# Altium integrated library Oscillators - Crystals.IntLib: 746 symbols (part 14 of 17)
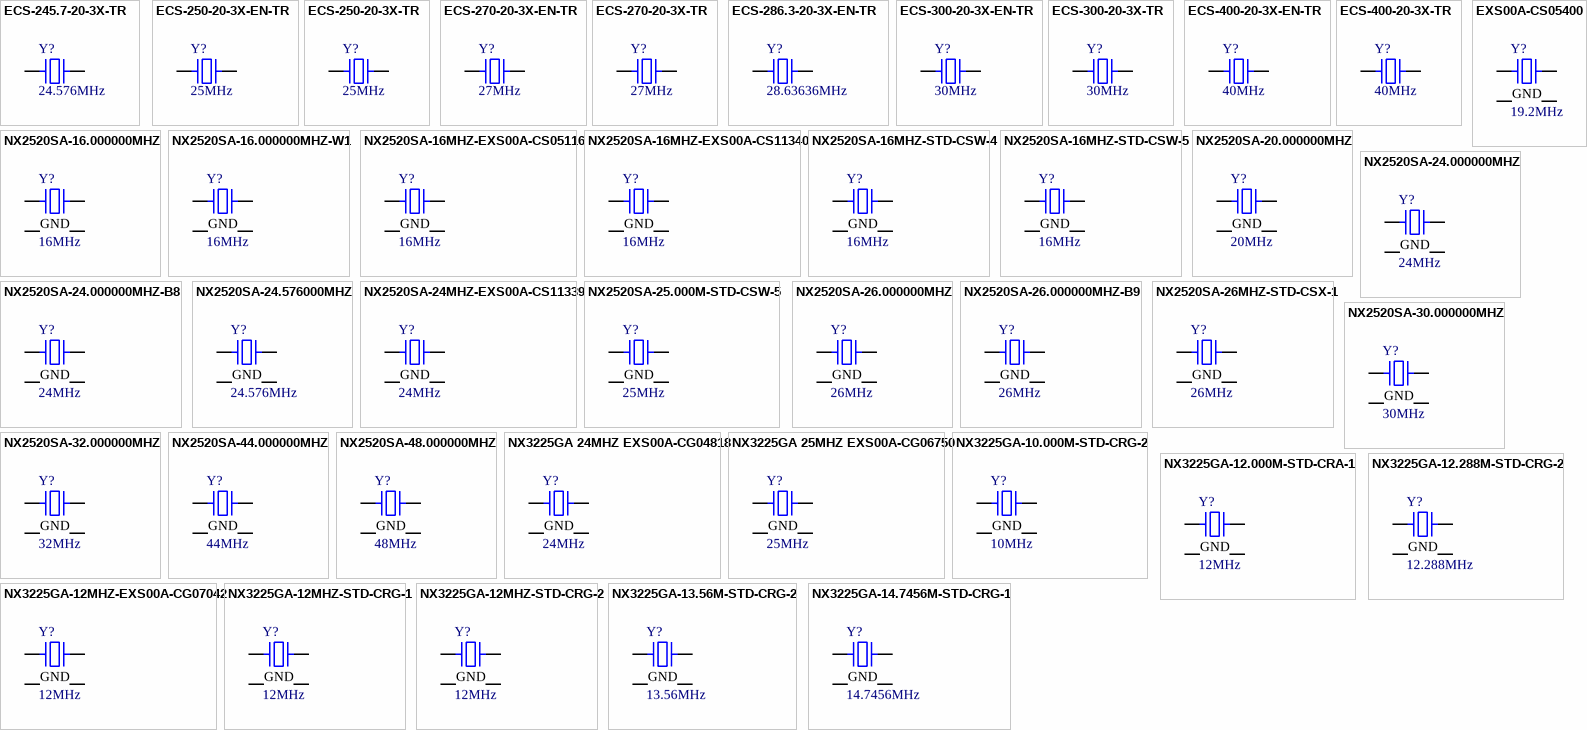
[diagram p31: symbols ECS-245.7-20-3X-TR to NX3225GA-14.7456M-STD-CRG-1]

## NX3225GA 24MHZ EXS00A-CG04818
designator Y?, comment 24MHz
CRYSTAL 24MHZ 8PF SMD; Part Number: NX3225GA 24MHZ EXS00A-CG04818; Manufacturer: NDK America, Inc.; ESR (Equivalent Series Resistance): 50 Ohms; Operating Mode: Fundamental; ComponentLink2Description: DigiKey Link; ComponentLink2URL: http://digikey.com/product-detail/en/ndk-america-inc/NX3225GA-24MHZ-EXS00A-CG04818/644-1389-1-ND/9172117; Frequency: 24MHz; Height - Seated (Max): 0.035" (0.90mm); LastUpdated: 9/2/2020 1:21:58 AM; Lifecycle Status: Active; Load Capacitance: 8pF; Minimum Order: 1; Mounting Type: Surface Mount; Operating Temperature: -40°C ~ 85°C; Package / Case: 4-SMD, No Lead; Packaging: TapeAndReel; PartId: 535; Part Status: Active; Price: 0.29; Series: NX3225GA; Size / Dimension: 0.126" L x 0.098" W (3.20mm x 2.50mm); Supplier 1: DigiKey; Supplier Part Number 1: 644-1389-1-ND; Type: MHz Crystal; Value: 24MHz
footprint NDK NX3225GA
pins: 1, 2 GND, 3, 4 GND

## NX3225GA 25MHZ EXS00A-CG06750
designator Y?, comment 25MHz
CRYSTAL 25MHZ 8PF SMD; Part Number: NX3225GA 25MHZ EXS00A-CG06750; Manufacturer: NDK America, Inc.; ComponentLink2Description: DigiKey Link; ComponentLink2URL: http://digikey.com/product-detail/en/ndk-america-inc/NX3225GA-25MHZ-EXS00A-CG06750/644-1390-1-ND/9172118; Frequency: 25MHz; Height - Seated (Max): 0.035" (0.90mm); LastUpdated: 9/2/2020 1:21:58 AM; Lifecycle Status: Active; Load Capacitance: 8pF; Minimum Order: 1; Mounting Type: Surface Mount; Package / Case: 4-SMD, No Lead; Packaging: TapeAndReel; PartId: 543; Part Status: Active; Price: 0.55; Series: NX3225GA; Size / Dimension: 0.126" L x 0.098" W (3.20mm x 2.50mm); Supplier 1: DigiKey; Supplier Part Number 1: 644-1390-1-ND; Type: MHz Crystal; Value: 25MHz
footprint NDK NX3225GA
pins: 1, 2 GND, 3, 4 GND

## NX3225GA-10.000M-STD-CRG-2
designator Y?, comment 10MHz
CRYSTAL 10.0000MHZ 8PF SMD; Part Number: NX3225GA-10.000M-STD-CRG-2; Manufacturer: NDK America, Inc.; ESR (Equivalent Series Resistance): 200 Ohms; Frequency Stability: ±30ppm; Frequency Tolerance: ±20ppm; Operating Mode: Fundamental; ComponentLink1Description: Datasheet; ComponentLink1URL: http://www.ndk.com/images/products/catalog/c_NX3225GA-STD-CRG-2_e.pdf; ComponentLink2Description: DigiKey Link; ComponentLink2URL: http://digikey.com/product-detail/en/ndk-america-inc/NX3225GA-10.000M-STD-CRG-2/644-1255-1-ND/5022987; Frequency: 10MHz; Height - Seated (Max): 0.035" (0.90mm); LastUpdated: 9/2/2020 1:21:58 AM; Lifecycle Status: Active; Load Capacitance: 8pF; Minimum Order: 1; Mounting Type: Surface Mount; Operating Temperature: -40°C ~ 85°C; Package / Case: 4-SMD, No Lead; Packaging: TapeAndReel; PartId: 555; Part Status: Active; Price: 0.29; Series: NX3225GA; Size / Dimension: 0.126" L x 0.098" W (3.20mm x 2.50mm); Supplier 1: DigiKey; Supplier Part Number 1: 644-1255-1-ND; Type: MHz Crystal; Value: 10MHz
footprint NDK NX3225GA
pins: 1, 2 GND, 3, 4 GND

## NX3225GA-12.000M-STD-CRA-1
designator Y?, comment 12MHz
CRYSTAL 12.0000MHZ 8PF SMD; Part Number: NX3225GA-12.000M-STD-CRA-1; Manufacturer: NDK America, Inc.; ESR (Equivalent Series Resistance): 300 Ohms; Frequency Stability: ±150ppm; Frequency Tolerance: ±50ppm; Operating Mode: Fundamental; ComponentLink1Description: Datasheet; ComponentLink1URL: http://www.ndk.com/images/products/catalog/c_NX3225GA-STD-CRA-1_e.pdf; ComponentLink2Description: DigiKey Link; ComponentLink2URL: http://digikey.com/product-detail/en/ndk-america-inc/NX3225GA-12.000M-STD-CRA-1/644-1283-1-ND/5137843; Frequency: 12MHz; Height - Seated (Max): 0.035" (0.90mm); LastUpdated: 9/2/2020 1:21:58 AM; Lifecycle Status: Active; Load Capacitance: 8pF; Minimum Order: 1; Mounting Type: Surface Mount; Operating Temperature: -40°C ~ 150°C; Package / Case: 4-SMD, No Lead; Packaging: TapeAndReel; PartId: 542; Part Status: Active; Price: 0.38; Ratings: AEC-Q200; Series: NX3225GA; Size / Dimension: 0.126" L x 0.098" W (3.20mm x 2.50mm); Supplier 1: DigiKey; Supplier Part Number 1: 644-1283-1-ND; Type: MHz Crystal; Value: 12MHz
footprint NDK NX3225GA
pins: 1, 2 GND, 3, 4 GND

## NX3225GA-12.288M-STD-CRG-2
designator Y?, comment 12.288MHz
CRYSTAL 12.2880MHZ 8PF SMD; Part Number: NX3225GA-12.288M-STD-CRG-2; Manufacturer: NDK America, Inc.; ESR (Equivalent Series Resistance): 100 Ohms; Frequency Stability: ±30ppm; Frequency Tolerance: ±20ppm; Operating Mode: Fundamental; ComponentLink1Description: Datasheet; ComponentLink1URL: http://www.ndk.com/images/products/catalog/c_NX3225GA-STD-CRG-2_e.pdf; ComponentLink2Description: DigiKey Link; ComponentLink2URL: http://digikey.com/product-detail/en/ndk-america-inc/NX3225GA-12.288M-STD-CRG-2/644-1222-1-ND/4914465; Frequency: 12.288MHz; Height - Seated (Max): 0.035" (0.90mm); LastUpdated: 9/2/2020 1:21:58 AM; Lifecycle Status: Active; Load Capacitance: 8pF; Minimum Order: 1; Mounting Type: Surface Mount; Operating Temperature: -40°C ~ 85°C; Package / Case: 4-SMD, No Lead; Packaging: TapeAndReel; PartId: 556; Part Status: Active; Price: 0.29; Series: NX3225GA; Size / Dimension: 0.126" L x 0.098" W (3.20mm x 2.50mm); Supplier 1: DigiKey; Supplier Part Number 1: 644-1222-1-ND; Type: MHz Crystal; Value: 12.288MHz
footprint NDK NX3225GA
pins: 1, 2 GND, 3, 4 GND

## NX3225GA-12MHZ-EXS00A-CG07042
designator Y?, comment 12MHz
CRYSTAL 12MHZ 10PF SMD; Part Number: NX3225GA-12MHZ-EXS00A-CG07042; Manufacturer: NDK America, Inc.; ESR (Equivalent Series Resistance): 100 Ohms; Frequency Stability: ±30ppm; Operating Mode: Fundamental; ComponentLink1Description: Datasheet; ComponentLink1URL: //media.digikey.com/pdf/Data%20Sheets/NDK%20PDFs/NX3225GA-12MHz-EXS00A-CG07042.pdf; ComponentLink2Description: DigiKey Link; ComponentLink2URL: http://digikey.com/product-detail/en/ndk-america-inc/NX3225GA-12MHZ-EXS00A-CG07042/644-1320-1-ND/8275438; Frequency: 12MHz; Frequency Tolerance: ±30ppm; Height - Seated (Max): 0.035" (0.90mm); LastUpdated: 9/2/2020 1:21:58 AM; Lifecycle Status: Active; Load Capacitance: 10pF; Minimum Order: 1; Mounting Type: Surface Mount; Operating Temperature: -10°C ~ 60°C; Package / Case: 4-SMD, No Lead; Packaging: TapeAndReel; PartId: 541; Part Status: Active; Price: 0.35; Series: NX3225GA; Size / Dimension: 0.126" L x 0.098" W (3.20mm x 2.50mm); Supplier 1: DigiKey; Supplier Part Number 1: 644-1320-1-ND; Type: MHz Crystal; Value: 12MHz
footprint NDK NX3225GA
pins: 1, 2 GND, 3, 4 GND

## NX3225GA-12MHZ-STD-CRG-1
designator Y?, comment 12MHz
CRYSTAL 12.0000MHZ 8PF SMD; Part Number: NX3225GA-12MHZ-STD-CRG-1; Manufacturer: NDK America, Inc.; ESR (Equivalent Series Resistance): 100 Ohms; Frequency Stability: ±30ppm; Frequency Tolerance: ±20ppm; Operating Mode: Fundamental; ComponentLink1Description: Datasheet; ComponentLink1URL: http://www.ndk.com/images/products/catalog/c_NX3225GA-STD-CRG-1_e.pdf; ComponentLink2Description: DigiKey Link; ComponentLink2URL: http://digikey.com/product-detail/en/ndk-america-inc/NX3225GA-12MHZ-STD-CRG-1/644-1172-1-ND/3125561; Frequency: 12MHz; Height - Seated (Max): 0.035" (0.90mm); LastUpdated: 9/2/2020 1:21:58 AM; Lifecycle Status: Active; Load Capacitance: 8pF; Minimum Order: 1; Mounting Type: Surface Mount; Operating Temperature: -10°C ~ 70°C; Package / Case: 4-SMD, No Lead; Packaging: TapeAndReel; PartId: 561; Part Status: Active; Price: 0.35; Series: NX3225GA; Size / Dimension: 0.126" L x 0.098" W (3.20mm x 2.50mm); Supplier 1: DigiKey; Supplier Part Number 1: 644-1172-1-ND; Type: MHz Crystal; Value: 12MHz
footprint NDK NX3225GA
pins: 1, 2 GND, 3, 4 GND

## NX3225GA-12MHZ-STD-CRG-2
designator Y?, comment 12MHz
CRYSTAL 12.0000MHZ 8PF SMD; Part Number: NX3225GA-12MHZ-STD-CRG-2; Manufacturer: NDK America, Inc.; ESR (Equivalent Series Resistance): 100 Ohms; Frequency Stability: ±30ppm; Frequency Tolerance: ±20ppm; Operating Mode: Fundamental; ComponentLink1Description: Datasheet; ComponentLink1URL: http://www.ndk.com/images/products/catalog/c_NX3225GA-STD-CRG-2_e.pdf; ComponentLink2Description: DigiKey Link; ComponentLink2URL: http://digikey.com/product-detail/en/ndk-america-inc/NX3225GA-12MHZ-STD-CRG-2/644-1173-1-ND/3125562; Frequency: 12MHz; Height - Seated (Max): 0.035" (0.90mm); LastUpdated: 9/2/2020 1:21:58 AM; Lifecycle Status: Active; Load Capacitance: 8pF; Minimum Order: 1; Mounting Type: Surface Mount; Operating Temperature: -40°C ~ 85°C; Package / Case: 4-SMD, No Lead; Packaging: TapeAndReel; PartId: 551; Part Status: Active; Price: 0.35; Series: NX3225GA; Size / Dimension: 0.126" L x 0.098" W (3.20mm x 2.50mm); Supplier 1: DigiKey; Supplier Part Number 1: 644-1173-1-ND; Type: MHz Crystal; Value: 12MHz
footprint NDK NX3225GA
pins: 1, 2 GND, 3, 4 GND

## NX3225GA-13.56M-STD-CRG-2
designator Y?, comment 13.56MHz
CRYSTAL 13.5600MHZ 8PF SMD; Part Number: NX3225GA-13.56M-STD-CRG-2; Manufacturer: NDK America, Inc.; ESR (Equivalent Series Resistance): 80 Ohms; Frequency Stability: ±30ppm; Frequency Tolerance: ±20ppm; Operating Mode: Fundamental; ComponentLink1Description: Datasheet; ComponentLink1URL: http://www.ndk.com/images/products/catalog/c_NX3225GA-STD-CRG-2_e.pdf; ComponentLink2Description: DigiKey Link; ComponentLink2URL: http://digikey.com/product-detail/en/ndk-america-inc/NX3225GA-13.56M-STD-CRG-2/644-1223-1-ND/4914466; Frequency: 13.56MHz; Height - Seated (Max): 0.035" (0.90mm); LastUpdated: 9/2/2020 1:21:58 AM; Lifecycle Status: Active; Load Capacitance: 8pF; Minimum Order: 1; Mounting Type: Surface Mount; Operating Temperature: -40°C ~ 85°C; Package / Case: 4-SMD, No Lead; Packaging: TapeAndReel; PartId: 558; Part Status: Active; Price: 0.29; Series: NX3225GA; Size / Dimension: 0.126" L x 0.098" W (3.20mm x 2.50mm); Supplier 1: DigiKey; Supplier Part Number 1: 644-1223-1-ND; Type: MHz Crystal; Value: 13.56MHz
footprint NDK NX3225GA
pins: 1, 2 GND, 3, 4 GND

## NX3225GA-14.7456M-STD-CRG-1
designator Y?, comment 14.7456MHz
CRYSTAL 14.7456MHZ 8PF SMD; Part Number: NX3225GA-14.7456M-STD-CRG-1; Manufacturer: NDK America, Inc.; ESR (Equivalent Series Resistance): 80 Ohms; Frequency Stability: ±30ppm; Frequency Tolerance: ±20ppm; Operating Mode: Fundamental; ComponentLink1Description: Datasheet; ComponentLink1URL: http://www.ndk.com/images/products/catalog/c_NX3225GA-STD-CRG-1_e.pdf; ComponentLink2Description: DigiKey Link; ComponentLink2URL: http://digikey.com/product-detail/en/ndk-america-inc/NX3225GA-14.7456M-STD-CRG-1/644-1226-1-ND/4914469; Frequency: 14.7456MHz; Height - Seated (Max): 0.035" (0.90mm); LastUpdated: 9/2/2020 1:21:58 AM; Lifecycle Status: Active; Load Capacitance: 8pF; Minimum Order: 1; Mounting Type: Surface Mount; Operating Temperature: -10°C ~ 70°C; Package / Case: 4-SMD, No Lead; Packaging: TapeAndReel; PartId: 538; Part Status: Active; Price: 0.29; Series: NX3225GA; Size / Dimension: 0.126" L x 0.098" W (3.20mm x 2.50mm); Supplier 1: DigiKey; Supplier Part Number 1: 644-1226-1-ND; Type: MHz Crystal; Value: 14.7456MHz
footprint NDK NX3225GA
pins: 1, 2 GND, 3, 4 GND

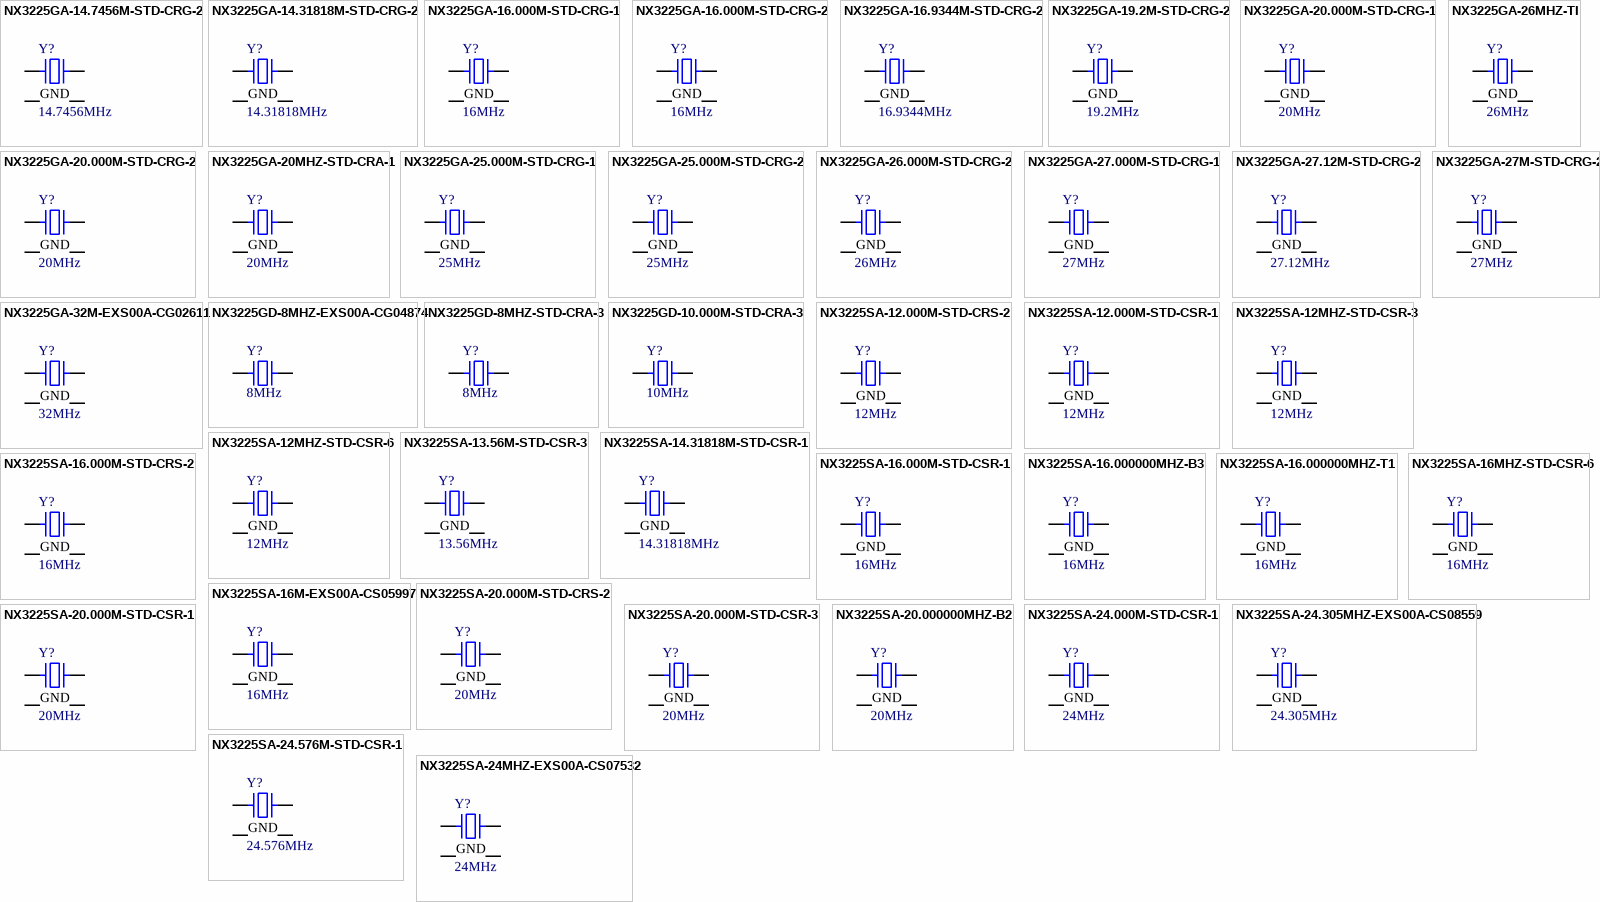
[diagram p15: symbols NX3225GA-14.7456M-STD-CRG-2 to NX3225SA-24MHZ-EXS00A-CS07532]

## NX3225GA-14.7456M-STD-CRG-2
designator Y?, comment 14.7456MHz
CRYSTAL 14.7456MHZ 8PF SMD; Part Number: NX3225GA-14.7456M-STD-CRG-2; Manufacturer: NDK America, Inc.; ESR (Equivalent Series Resistance): 80 Ohms; Frequency Stability: ±30ppm; Frequency Tolerance: ±20ppm; Operating Mode: Fundamental; ComponentLink1Description: Datasheet; ComponentLink1URL: http://www.ndk.com/images/products/catalog/c_NX3225GA-STD-CRG-2_e.pdf; ComponentLink2Description: DigiKey Link; ComponentLink2URL: http://digikey.com/product-detail/en/ndk-america-inc/NX3225GA-14.7456M-STD-CRG-2/644-1227-1-ND/4914470; Frequency: 14.7456MHz; Height - Seated (Max): 0.035" (0.90mm); LastUpdated: 9/2/2020 1:21:58 AM; Lifecycle Status: Active; Load Capacitance: 8pF; Minimum Order: 1; Mounting Type: Surface Mount; Operating Temperature: -40°C ~ 85°C; Package / Case: 4-SMD, No Lead; Packaging: TapeAndReel; PartId: 557; Part Status: Active; Price: 0.29; Series: NX3225GA; Size / Dimension: 0.126" L x 0.098" W (3.20mm x 2.50mm); Supplier 1: DigiKey; Supplier Part Number 1: 644-1227-1-ND; Type: MHz Crystal; Value: 14.7456MHz
footprint NDK NX3225GA
pins: 1, 2 GND, 3, 4 GND

## NX3225GA-14.31818M-STD-CRG-2
designator Y?, comment 14.31818MHz
CRYSTAL 14.31818MHZ 8PF SMD; Part Number: NX3225GA-14.31818M-STD-CRG-2; Manufacturer: NDK America, Inc.; ESR (Equivalent Series Resistance): 80 Ohms; Frequency Stability: ±30ppm; Frequency Tolerance: ±20ppm; Operating Mode: Fundamental; ComponentLink1Description: Datasheet; ComponentLink1URL: http://www.ndk.com/images/products/catalog/c_NX3225GA-STD-CRG-2_e.pdf; ComponentLink2Description: DigiKey Link; ComponentLink2URL: http://digikey.com/product-detail/en/ndk-america-inc/NX3225GA-14.31818M-STD-CRG-2/644-1225-1-ND/4914468; Frequency: 14.31818MHz; Height - Seated (Max): 0.035" (0.90mm); LastUpdated: 9/2/2020 1:21:58 AM; Lifecycle Status: Active; Load Capacitance: 8pF; Minimum Order: 1; Mounting Type: Surface Mount; Operating Temperature: -40°C ~ 85°C; Package / Case: 4-SMD, No Lead; Packaging: TapeAndReel; PartId: 537; Part Status: Active; Price: 0.29; Series: NX3225GA; Size / Dimension: 0.126" L x 0.098" W (3.20mm x 2.50mm); Supplier 1: DigiKey; Supplier Part Number 1: 644-1225-1-ND; Type: MHz Crystal; Value: 14.31818MHz
footprint NDK NX3225GA
pins: 1, 2 GND, 3, 4 GND

## NX3225GA-16.000M-STD-CRG-1
designator Y?, comment 16MHz
CRYSTAL 16.0000MHZ 8PF SMD; Part Number: NX3225GA-16.000M-STD-CRG-1; Manufacturer: NDK America, Inc.; ESR (Equivalent Series Resistance): 80 Ohms; Frequency Stability: ±30ppm; Frequency Tolerance: ±20ppm; Operating Mode: Fundamental; ComponentLink1Description: Datasheet; ComponentLink1URL: http://www.ndk.com/images/products/catalog/c_NX3225GA-STD-CRG-1_e.pdf; ComponentLink2Description: DigiKey Link; ComponentLink2URL: http://digikey.com/product-detail/en/ndk-america-inc/NX3225GA-16.000M-STD-CRG-1/644-1157-1-ND/2261474; Frequency: 16MHz; Height - Seated (Max): 0.035" (0.90mm); LastUpdated: 9/2/2020 1:21:58 AM; Lifecycle Status: Active; Load Capacitance: 8pF; Minimum Order: 1; Mounting Type: Surface Mount; Operating Temperature: -10°C ~ 70°C; Package / Case: 4-SMD, No Lead; Packaging: TapeAndReel; PartId: 550; Part Status: Active; Price: 0.35; Series: NX3225GA; Size / Dimension: 0.126" L x 0.098" W (3.20mm x 2.50mm); Supplier 1: DigiKey; Supplier Part Number 1: 644-1157-1-ND; Type: MHz Crystal; Value: 16MHz
footprint NDK NX3225GA
pins: 1, 2 GND, 3, 4 GND

## NX3225GA-16.000M-STD-CRG-2
designator Y?, comment 16MHz
CRYSTAL 16.0000MHZ 8PF SMD; Part Number: NX3225GA-16.000M-STD-CRG-2; Manufacturer: NDK America, Inc.; ESR (Equivalent Series Resistance): 80 Ohms; Frequency Stability: ±30ppm; Frequency Tolerance: ±20ppm; Operating Mode: Fundamental; ComponentLink1Description: Datasheet; ComponentLink1URL: http://www.ndk.com/images/products/catalog/c_NX3225GA-STD-CRG-2_e.pdf; ComponentLink2Description: DigiKey Link; ComponentLink2URL: http://digikey.com/product-detail/en/ndk-america-inc/NX3225GA-16.000M-STD-CRG-2/644-1175-1-ND/3125564; Frequency: 16MHz; Height - Seated (Max): 0.035" (0.90mm); LastUpdated: 9/2/2020 1:21:58 AM; Lifecycle Status: Active; Load Capacitance: 8pF; Minimum Order: 1; Mounting Type: Surface Mount; Operating Temperature: -40°C ~ 85°C; Package / Case: 4-SMD, No Lead; Packaging: TapeAndReel; PartId: 549; Part Status: Active; Price: 0.35; Series: NX3225GA; Size / Dimension: 0.126" L x 0.098" W (3.20mm x 2.50mm); Supplier 1: DigiKey; Supplier Part Number 1: 644-1175-1-ND; Type: MHz Crystal; Value: 16MHz
footprint NDK NX3225GA
pins: 1, 2 GND, 3, 4 GND

## NX3225GA-16.9344M-STD-CRG-2
designator Y?, comment 16.9344MHz
CRYSTAL 16.9344MHZ 8PF SMD; Part Number: NX3225GA-16.9344M-STD-CRG-2; Manufacturer: NDK America, Inc.; ESR (Equivalent Series Resistance): 80 Ohms; Frequency Stability: ±30ppm; Frequency Tolerance: ±20ppm; Operating Mode: Fundamental; ComponentLink1Description: Datasheet; ComponentLink1URL: http://www.ndk.com/images/products/catalog/c_NX3225GA-STD-CRG-2_e.pdf; ComponentLink2Description: DigiKey Link; ComponentLink2URL: http://digikey.com/product-detail/en/ndk-america-inc/NX3225GA-16.9344M-STD-CRG-2/644-1228-1-ND/4914471; Frequency: 16.9344MHz; Height - Seated (Max): 0.035" (0.90mm); LastUpdated: 9/2/2020 1:21:58 AM; Lifecycle Status: Active; Load Capacitance: 8pF; Minimum Order: 1; Mounting Type: Surface Mount; Operating Temperature: -40°C ~ 85°C; Package / Case: 4-SMD, No Lead; Packaging: TapeAndReel; PartId: 536; Part Status: Active; Price: 0.29; Series: NX3225GA; Size / Dimension: 0.126" L x 0.098" W (3.20mm x 2.50mm); Supplier 1: DigiKey; Supplier Part Number 1: 644-1228-1-ND; Type: MHz Crystal; Value: 16.9344MHz
footprint NDK NX3225GA
pins: 1, 2 GND, 3, 4 GND

## NX3225GA-19.2M-STD-CRG-2
designator Y?, comment 19.2MHz
CRYSTAL 19.2000MHZ 8PF SMD; Part Number: NX3225GA-19.2M-STD-CRG-2; Manufacturer: NDK America, Inc.; ESR (Equivalent Series Resistance): 80 Ohms; Frequency Stability: ±30ppm; Frequency Tolerance: ±20ppm; Operating Mode: Fundamental; ComponentLink1Description: Datasheet; ComponentLink1URL: http://www.ndk.com/images/products/catalog/c_NX3225GA-STD-CRG-2_e.pdf; ComponentLink2Description: DigiKey Link; ComponentLink2URL: http://digikey.com/product-detail/en/ndk-america-inc/NX3225GA-19.2M-STD-CRG-2/644-1229-1-ND/4914472; Frequency: 19.2MHz; Height - Seated (Max): 0.035" (0.90mm); LastUpdated: 9/2/2020 1:21:58 AM; Lifecycle Status: Active; Load Capacitance: 8pF; Minimum Order: 1; Mounting Type: Surface Mount; Operating Temperature: -40°C ~ 85°C; Package / Case: 4-SMD, No Lead; Packaging: TapeAndReel; PartId: 544; Part Status: Active; Price: 0.29; Series: NX3225GA; Size / Dimension: 0.126" L x 0.098" W (3.20mm x 2.50mm); Supplier 1: DigiKey; Supplier Part Number 1: 644-1229-1-ND; Type: MHz Crystal; Value: 19.2MHz
footprint NDK NX3225GA
pins: 1, 2 GND, 3, 4 GND

## NX3225GA-20.000M-STD-CRG-1
designator Y?, comment 20MHz
CRYSTAL 20.0000MHZ 8PF SMD; Part Number: NX3225GA-20.000M-STD-CRG-1; Manufacturer: NDK America, Inc.; ESR (Equivalent Series Resistance): 50 Ohms; Frequency Stability: ±30ppm; Frequency Tolerance: ±20ppm; Operating Mode: Fundamental; ComponentLink1Description: Datasheet; ComponentLink1URL: http://www.ndk.com/images/products/catalog/c_NX3225GA-STD-CRG-1_e.pdf; ComponentLink2Description: DigiKey Link; ComponentLink2URL: http://digikey.com/product-detail/en/ndk-america-inc/NX3225GA-20.000M-STD-CRG-1/644-1256-1-ND/5022988; Frequency: 20MHz; Height - Seated (Max): 0.035" (0.90mm); LastUpdated: 9/2/2020 1:21:58 AM; Lifecycle Status: Active; Load Capacitance: 8pF; Minimum Order: 1; Mounting Type: Surface Mount; Operating Temperature: -10°C ~ 70°C; Package / Case: 4-SMD, No Lead; Packaging: TapeAndReel; PartId: 545; Part Status: Active; Price: 0.29; Series: NX3225GA; Size / Dimension: 0.126" L x 0.098" W (3.20mm x 2.50mm); Supplier 1: DigiKey; Supplier Part Number 1: 644-1256-1-ND; Type: MHz Crystal; Value: 20MHz
footprint NDK NX3225GA
pins: 1, 2 GND, 3, 4 GND

## NX3225GA-20.000M-STD-CRG-2
designator Y?, comment 20MHz
CRYSTAL 20.0000MHZ 8PF SMD; Part Number: NX3225GA-20.000M-STD-CRG-2; Manufacturer: NDK America, Inc.; ESR (Equivalent Series Resistance): 50 Ohms; Frequency Stability: ±30ppm; Frequency Tolerance: ±20ppm; Operating Mode: Fundamental; ComponentLink1Description: Datasheet; ComponentLink1URL: http://www.ndk.com/images/products/catalog/c_NX3225GA-STD-CRG-2_e.pdf; ComponentLink2Description: DigiKey Link; ComponentLink2URL: http://digikey.com/product-detail/en/ndk-america-inc/NX3225GA-20.000M-STD-CRG-2/644-1257-1-ND/5022989; Frequency: 20MHz; Height - Seated (Max): 0.035" (0.90mm); LastUpdated: 9/2/2020 1:21:58 AM; Lifecycle Status: Active; Load Capacitance: 8pF; Minimum Order: 1; Mounting Type: Surface Mount; Operating Temperature: -40°C ~ 85°C; Package / Case: 4-SMD, No Lead; Packaging: TapeAndReel; PartId: 560; Part Status: Active; Price: 0.29; Series: NX3225GA; Size / Dimension: 0.126" L x 0.098" W (3.20mm x 2.50mm); Supplier 1: DigiKey; Supplier Part Number 1: 644-1257-1-ND; Type: MHz Crystal; Value: 20MHz
footprint NDK NX3225GA
pins: 1, 2 GND, 3, 4 GND

## NX3225GA-20MHZ-STD-CRA-1
designator Y?, comment 20MHz
CRYSTAL 20.0000MHZ 8PF SMD; Part Number: NX3225GA-20MHZ-STD-CRA-1; Manufacturer: NDK America, Inc.; ESR (Equivalent Series Resistance): 100 Ohms; Frequency Stability: ±150ppm; Frequency Tolerance: ±50ppm; Operating Mode: Fundamental; ComponentLink1Description: Datasheet; ComponentLink1URL: http://www.ndk.com/images/products/catalog/c_NX3225GA-STD-CRA-1_e.pdf; ComponentLink2Description: DigiKey Link; ComponentLink2URL: http://digikey.com/product-detail/en/ndk-america-inc/NX3225GA-20MHZ-STD-CRA-1/644-1176-1-ND/3125565; Frequency: 20MHz; Height - Seated (Max): 0.035" (0.90mm); LastUpdated: 9/2/2020 1:21:58 AM; Lifecycle Status: Active; Load Capacitance: 8pF; Minimum Order: 1; Mounting Type: Surface Mount; Operating Temperature: -40°C ~ 150°C; Package / Case: 4-SMD, No Lead; Packaging: TapeAndReel; PartId: 552; Part Status: Active; Price: 0.48; Ratings: AEC-Q200; Series: NX3225GA; Size / Dimension: 0.126" L x 0.098" W (3.20mm x 2.50mm); Supplier 1: DigiKey; Supplier Part Number 1: 644-1176-1-ND; Type: MHz Crystal; Value: 20MHz
footprint NDK NX3225GA
pins: 1, 2 GND, 3, 4 GND

## NX3225GA-25.000M-STD-CRG-1
designator Y?, comment 25MHz
CRYSTAL 25.0000MHZ 8PF SMD; Part Number: NX3225GA-25.000M-STD-CRG-1; Manufacturer: NDK America, Inc.; ESR (Equivalent Series Resistance): 50 Ohms; Frequency Stability: ±30ppm; Frequency Tolerance: ±20ppm; Operating Mode: Fundamental; ComponentLink1Description: Datasheet; ComponentLink1URL: http://www.ndk.com/images/products/catalog/c_NX3225GA-STD-CRG-1_e.pdf; ComponentLink2Description: DigiKey Link; ComponentLink2URL: http://digikey.com/product-detail/en/ndk-america-inc/NX3225GA-25.000M-STD-CRG-1/644-1258-1-ND/5022990; Frequency: 25MHz; Height - Seated (Max): 0.035" (0.90mm); LastUpdated: 9/2/2020 1:21:58 AM; Lifecycle Status: Active; Load Capacitance: 8pF; Minimum Order: 1; Mounting Type: Surface Mount; Operating Temperature: -10°C ~ 70°C; Package / Case: 4-SMD, No Lead; Packaging: TapeAndReel; PartId: 554; Part Status: Active; Price: 0.29; Series: NX3225GA; Size / Dimension: 0.126" L x 0.098" W (3.20mm x 2.50mm); Supplier 1: DigiKey; Supplier Part Number 1: 644-1258-1-ND; Type: MHz Crystal; Value: 25MHz
footprint NDK NX3225GA
pins: 1, 2 GND, 3, 4 GND

## NX3225GA-25.000M-STD-CRG-2
designator Y?, comment 25MHz
CRYSTAL 25.0000MHZ 8PF SMD; Part Number: NX3225GA-25.000M-STD-CRG-2; Manufacturer: NDK America, Inc.; ESR (Equivalent Series Resistance): 50 Ohms; Frequency Stability: ±30ppm; Frequency Tolerance: ±20ppm; Operating Mode: Fundamental; ComponentLink1Description: Datasheet; ComponentLink1URL: http://www.ndk.com/images/products/catalog/c_NX3225GA-STD-CRG-2_e.pdf; ComponentLink2Description: DigiKey Link; ComponentLink2URL: http://digikey.com/product-detail/en/ndk-america-inc/NX3225GA-25.000M-STD-CRG-2/644-1259-1-ND/5022991; Frequency: 25MHz; Height - Seated (Max): 0.035" (0.90mm); LastUpdated: 9/2/2020 1:21:58 AM; Lifecycle Status: Active; Load Capacitance: 8pF; Minimum Order: 1; Mounting Type: Surface Mount; Operating Temperature: -40°C ~ 85°C; Package / Case: 4-SMD, No Lead; Packaging: TapeAndReel; PartId: 547; Part Status: Active; Price: 0.29; Series: NX3225GA; Size / Dimension: 0.126" L x 0.098" W (3.20mm x 2.50mm); Supplier 1: DigiKey; Supplier Part Number 1: 644-1259-1-ND; Type: MHz Crystal; Value: 25MHz
footprint NDK NX3225GA
pins: 1, 2 GND, 3, 4 GND

## NX3225GA-26.000M-STD-CRG-2
designator Y?, comment 26MHz
CRYSTAL 26.0000MHZ 8PF SMD; Part Number: NX3225GA-26.000M-STD-CRG-2; Manufacturer: NDK America, Inc.; ESR (Equivalent Series Resistance): 50 Ohms; Frequency Stability: ±30ppm; Frequency Tolerance: ±20ppm; Operating Mode: Fundamental; ComponentLink1Description: Datasheet; ComponentLink1URL: http://www.ndk.com/images/products/catalog/c_NX3225GA-STD-CRG-2_e.pdf; ComponentLink2Description: DigiKey Link; ComponentLink2URL: http://digikey.com/product-detail/en/ndk-america-inc/NX3225GA-26.000M-STD-CRG-2/644-1261-1-ND/5022993; Frequency: 26MHz; Height - Seated (Max): 0.035" (0.90mm); LastUpdated: 9/2/2020 1:21:58 AM; Lifecycle Status: Active; Load Capacitance: 8pF; Minimum Order: 1; Mounting Type: Surface Mount; Operating Temperature: -40°C ~ 85°C; Package / Case: 4-SMD, No Lead; Packaging: TapeAndReel; PartId: 539; Part Status: Active; Price: 0.29; Series: NX3225GA; Size / Dimension: 0.126" L x 0.098" W (3.20mm x 2.50mm); Supplier 1: DigiKey; Supplier Part Number 1: 644-1261-1-ND; Type: MHz Crystal; Value: 26MHz
footprint NDK NX3225GA
pins: 1, 2 GND, 3, 4 GND

## NX3225GA-26MHZ-TI
designator Y?, comment 26MHz
CRYSTAL 26.0000MHZ 10PF SMD; Part Number: NX3225GA-26MHZ-TI; Manufacturer: NDK America, Inc.; ESR (Equivalent Series Resistance): 50 Ohms; Frequency Stability: ±40ppm; Frequency Tolerance: ±20ppm; Operating Mode: Fundamental; ComponentLink1Description: Datasheet; ComponentLink1URL: //media.digikey.com/pdf/Data%20Sheets/NDK%20PDFs/NX3225GA.pdf; ComponentLink2Description: DigiKey Link; ComponentLink2URL: http://digikey.com/product-detail/en/ndk-america-inc/NX3225GA-26MHZ-TI/644-1160-1-ND/2349038; Frequency: 26MHz; Height - Seated (Max): 0.035" (0.90mm); LastUpdated: 9/2/2020 1:21:58 AM; Lifecycle Status: Active; Load Capacitance: 10pF; Minimum Order: 1; Mounting Type: Surface Mount; Operating Temperature: -40°C ~ 85°C; Package / Case: 4-SMD, No Lead; Packaging: TapeAndReel; PartId: 553; Part Status: Active; Price: 0.35; Series: NX3225GA; Size / Dimension: 0.126" L x 0.098" W (3.20mm x 2.50mm); Supplier 1: DigiKey; Supplier Part Number 1: 644-1160-1-ND; Type: MHz Crystal; Value: 26MHz
footprint NDK NX3225GA
pins: 1, 2 GND, 3, 4 GND

## NX3225GA-27.000M-STD-CRG-1
designator Y?, comment 27MHz
CRYSTAL 27.0000MHZ 8PF SMD; Part Number: NX3225GA-27.000M-STD-CRG-1; Manufacturer: NDK America, Inc.; ESR (Equivalent Series Resistance): 50 Ohms; Frequency Stability: ±30ppm; Frequency Tolerance: ±20ppm; Operating Mode: Fundamental; ComponentLink1Description: Datasheet; ComponentLink1URL: http://www.ndk.com/images/products/catalog/c_NX3225GA-STD-CRG-1_e.pdf; ComponentLink2Description: DigiKey Link; ComponentLink2URL: http://digikey.com/product-detail/en/ndk-america-inc/NX3225GA-27.000M-STD-CRG-1/644-1158-1-ND/2261475; Frequency: 27MHz; Height - Seated (Max): 0.035" (0.90mm); LastUpdated: 9/2/2020 1:21:58 AM; Lifecycle Status: Active; Load Capacitance: 8pF; Minimum Order: 1; Mounting Type: Surface Mount; Operating Temperature: -10°C ~ 70°C; Package / Case: 4-SMD, No Lead; Packaging: TapeAndReel; PartId: 540; Part Status: Active; Price: 0.35; Series: NX3225GA; Size / Dimension: 0.126" L x 0.098" W (3.20mm x 2.50mm); Supplier 1: DigiKey; Supplier Part Number 1: 644-1158-1-ND; Type: MHz Crystal; Value: 27MHz
footprint NDK NX3225GA
pins: 1, 2 GND, 3, 4 GND

## NX3225GA-27.12M-STD-CRG-2
designator Y?, comment 27.12MHz
CRYSTAL 27.1200MHZ 8PF SMD; Part Number: NX3225GA-27.12M-STD-CRG-2; Manufacturer: NDK America, Inc.; ESR (Equivalent Series Resistance): 50 Ohms; Frequency Stability: ±30ppm; Frequency Tolerance: ±20ppm; Operating Mode: Fundamental; ComponentLink1Description: Datasheet; ComponentLink1URL: http://www.ndk.com/images/products/catalog/c_NX3225GA-STD-CRG-2_e.pdf; ComponentLink2Description: DigiKey Link; ComponentLink2URL: http://digikey.com/product-detail/en/ndk-america-inc/NX3225GA-27.12M-STD-CRG-2/644-1231-1-ND/4914474; Frequency: 27.12MHz; Height - Seated (Max): 0.035" (0.90mm); LastUpdated: 9/2/2020 1:21:58 AM; Lifecycle Status: Active; Load Capacitance: 8pF; Minimum Order: 1; Mounting Type: Surface Mount; Operating Temperature: -40°C ~ 85°C; Package / Case: 4-SMD, No Lead; Packaging: TapeAndReel; PartId: 548; Part Status: Active; Price: 0.29; Series: NX3225GA; Size / Dimension: 0.126" L x 0.098" W (3.20mm x 2.50mm); Supplier 1: DigiKey; Supplier Part Number 1: 644-1231-1-ND; Type: MHz Crystal; Value: 27.12MHz
footprint NDK NX3225GA
pins: 1, 2 GND, 3, 4 GND

## NX3225GA-27M-STD-CRG-2
designator Y?, comment 27MHz
CRYSTAL 27.0000MHZ 8PF SMD; Part Number: NX3225GA-27M-STD-CRG-2; Manufacturer: NDK America, Inc.; ESR (Equivalent Series Resistance): 50 Ohms; Frequency Stability: ±30ppm; Frequency Tolerance: ±20ppm; Operating Mode: Fundamental; ComponentLink1Description: Datasheet; ComponentLink1URL: http://www.ndk.com/images/products/catalog/c_NX3225GA-STD-CRG-2_e.pdf; ComponentLink2Description: DigiKey Link; ComponentLink2URL: http://digikey.com/product-detail/en/ndk-america-inc/NX3225GA-27M-STD-CRG-2/644-1232-1-ND/4914475; Frequency: 27MHz; Height - Seated (Max): 0.035" (0.90mm); LastUpdated: 9/2/2020 1:21:58 AM; Lifecycle Status: Active; Load Capacitance: 8pF; Minimum Order: 1; Mounting Type: Surface Mount; Operating Temperature: -40°C ~ 85°C; Package / Case: 4-SMD, No Lead; Packaging: TapeAndReel; PartId: 559; Part Status: Active; Price: 0.29; Series: NX3225GA; Size / Dimension: 0.126" L x 0.098" W (3.20mm x 2.50mm); Supplier 1: DigiKey; Supplier Part Number 1: 644-1232-1-ND; Type: MHz Crystal; Value: 27MHz
footprint NDK NX3225GA
pins: 1, 2 GND, 3, 4 GND

## NX3225GA-32M-EXS00A-CG02611
designator Y?, comment 32MHz
CRYSTAL 32.0000MHZ 10PF SMD; Part Number: NX3225GA-32M-EXS00A-CG02611; Manufacturer: NDK America, Inc.; ESR (Equivalent Series Resistance): 50 Ohms; Frequency Stability: ±20ppm; Operating Mode: Fundamental; ComponentLink1Description: Datasheet; ComponentLink1URL: //media.digikey.com/pdf/Data%20Sheets/NDK%20PDFs/NX3225GA-32M-EXS00A-CG02611.pdf; ComponentLink2Description: DigiKey Link; ComponentLink2URL: http://digikey.com/product-detail/en/ndk-america-inc/NX3225GA-32M-EXS00A-CG02611/644-1250-1-ND/5015629; Frequency: 32MHz; Frequency Tolerance: ±20ppm; Height - Seated (Max): 0.035" (0.90mm); LastUpdated: 9/2/2020 1:21:58 AM; Lifecycle Status: Active; Load Capacitance: 10pF; Minimum Order: 1; Mounting Type: Surface Mount; Package / Case: 4-SMD, No Lead; Packaging: TapeAndReel; PartId: 546; Part Status: Active; Price: 0.29; Series: NX3225GA; Size / Dimension: 0.126" L x 0.098" W (3.20mm x 2.50mm); Supplier 1: DigiKey; Supplier Part Number 1: 644-1250-1-ND; Type: MHz Crystal; Value: 32MHz
footprint NDK NX3225GA
pins: 1, 2 GND, 3, 4 GND

## NX3225GD-8MHZ-EXS00A-CG04874
designator Y?, comment 8MHz
CRYSTAL 8MHZ 8PF SMD; Part Number: NX3225GD-8MHZ-EXS00A-CG04874; Manufacturer: NDK America, Inc.; ESR (Equivalent Series Resistance): 500 Ohms; Frequency Stability: ±150ppm; Frequency Tolerance: ±50ppm; Operating Mode: Fundamental; ComponentLink2Description: DigiKey Link; ComponentLink2URL: http://digikey.com/product-detail/en/ndk-america-inc/NX3225GD-8MHZ-EXS00A-CG04874/644-1391-1-ND/9172119; Frequency: 8MHz; Height - Seated (Max): 0.039" (1.00mm); LastUpdated: 9/2/2020 1:25:56 AM; Lifecycle Status: Active; Load Capacitance: 8pF; Minimum Order: 1; Mounting Type: Surface Mount; Operating Temperature: -40°C ~ 85°C; Package / Case: 2-SMD, No Lead; Packaging: TapeAndReel; PartId: 746; Part Status: Active; Price: 0.39; Ratings: AEC-Q200; Series: NX3225GD; Size / Dimension: 0.126" L x 0.098" W (3.20mm x 2.50mm); Supplier 1: DigiKey; Supplier Part Number 1: 644-1391-1-ND; Type: MHz Crystal; Value: 8MHz
footprint NDK NX3225GD
pins: 1, 2

## NX3225GD-8MHZ-STD-CRA-3
designator Y?, comment 8MHz
CRYSTAL 8.0000MHZ 8PF SMD; Part Number: NX3225GD-8MHZ-STD-CRA-3; Manufacturer: NDK America, Inc.; ESR (Equivalent Series Resistance): 500 Ohms; Frequency Stability: ±150ppm; Frequency Tolerance: ±50ppm; Operating Mode: Fundamental; ComponentLink1Description: Datasheet; ComponentLink1URL: http://www.ndk.com/images/products/catalog/c_NX3225GD-STD-CRA-3_e.pdf; ComponentLink2Description: DigiKey Link; ComponentLink2URL: http://digikey.com/product-detail/en/ndk-america-inc/NX3225GD-8MHZ-STD-CRA-3/644-1178-1-ND/3125567; Frequency: 8MHz; Height - Seated (Max): 0.039" (1.00mm); LastUpdated: 9/2/2020 1:25:56 AM; Lifecycle Status: Active; Load Capacitance: 8pF; Minimum Order: 1; Mounting Type: Surface Mount; Operating Temperature: -40°C ~ 150°C; Package / Case: 2-SMD, No Lead; Packaging: TapeAndReel; PartId: 744; Part Status: Active; Price: 0.48; Ratings: AEC-Q200; Series: NX3225GD; Size / Dimension: 0.126" L x 0.098" W (3.20mm x 2.50mm); Supplier 1: DigiKey; Supplier Part Number 1: 644-1178-1-ND; Type: MHz Crystal; Value: 8MHz
footprint NDK NX3225GD
pins: 1, 2

## NX3225GD-10.000M-STD-CRA-3
designator Y?, comment 10MHz
CRYSTAL 10.0000MHZ 8PF SMD; Part Number: NX3225GD-10.000M-STD-CRA-3; Manufacturer: NDK America, Inc.; ESR (Equivalent Series Resistance): 300 Ohms; Frequency Stability: ±150ppm; Frequency Tolerance: ±50ppm; Operating Mode: Fundamental; ComponentLink1Description: Datasheet; ComponentLink1URL: http://www.ndk.com/images/products/catalog/c_NX3225GD-STD-CRA-3_e.pdf; ComponentLink2Description: DigiKey Link; ComponentLink2URL: http://digikey.com/product-detail/en/ndk-america-inc/NX3225GD-10.000M-STD-CRA-3/644-1264-1-ND/5022996; Frequency: 10MHz; Height - Seated (Max): 0.039" (1.00mm); LastUpdated: 9/2/2020 1:25:56 AM; Lifecycle Status: Active; Load Capacitance: 8pF; Minimum Order: 1; Mounting Type: Surface Mount; Operating Temperature: -40°C ~ 150°C; Package / Case: 2-SMD, No Lead; Packaging: TapeAndReel; PartId: 745; Part Status: Active; Price: 0.38; Ratings: AEC-Q200; Series: NX3225GD; Size / Dimension: 0.126" L x 0.098" W (3.20mm x 2.50mm); Supplier 1: DigiKey; Supplier Part Number 1: 644-1264-1-ND; Type: MHz Crystal; Value: 10MHz
footprint NDK NX3225GD
pins: 1, 2

## NX3225SA-12.000M-STD-CRS-2
designator Y?, comment 12MHz
CRYSTAL 12.0000MHZ 8PF SMD; Part Number: NX3225SA-12.000M-STD-CRS-2; Manufacturer: NDK America, Inc.; ESR (Equivalent Series Resistance): 120 Ohms; Frequency Stability: ±50ppm; Frequency Tolerance: ±15ppm; Operating Mode: Fundamental; ComponentLink1Description: Datasheet; ComponentLink1URL: http://www.ndk.com/images/products/catalog/c_NX3225SA-STD-CRS-2_e.pdf; ComponentLink2Description: DigiKey Link; ComponentLink2URL: http://digikey.com/product-detail/en/ndk-america-inc/NX3225SA-12.000M-STD-CRS-2/644-1128-1-ND/1788483; Frequency: 12MHz; Height - Seated (Max): 0.024" (0.60mm); LastUpdated: 9/2/2020 1:21:59 AM; Lifecycle Status: Active; Load Capacitance: 8pF; Minimum Order: 1; Mounting Type: Surface Mount; Operating Temperature: -40°C ~ 125°C; Package / Case: 4-SMD, No Lead; Packaging: TapeAndReel; PartId: 581; Part Status: Active; Price: 0.36; Ratings: AEC-Q200; Series: NX3225SA; Size / Dimension: 0.126" L x 0.098" W (3.20mm x 2.50mm); Supplier 1: DigiKey; Supplier Part Number 1: 644-1128-1-ND; Type: MHz Crystal; Value: 12MHz
footprint NDK NX3225SA
pins: 1, 2 GND, 3, 4 GND

## NX3225SA-12.000M-STD-CSR-1
designator Y?, comment 12MHz
CRYSTAL 12.0000MHZ 8PF SMD; Part Number: NX3225SA-12.000M-STD-CSR-1; Manufacturer: NDK America, Inc.; ESR (Equivalent Series Resistance): 100 Ohms; Frequency Stability: ±15ppm; Operating Mode: Fundamental; ComponentLink1Description: Datasheet; ComponentLink1URL: //media.digikey.com/pdf/Data%20Sheets/NDK%20PDFs/NX3225SA.pdf; ComponentLink2Description: DigiKey Link; ComponentLink2URL: http://digikey.com/product-detail/en/ndk-america-inc/NX3225SA-12.000M-STD-CSR-1/644-1047-1-ND/1128919; Frequency: 12MHz; Frequency Tolerance: ±15ppm; Height - Seated (Max): 0.024" (0.60mm); LastUpdated: 9/2/2020 1:21:59 AM; Lifecycle Status: Active; Load Capacitance: 8pF; Minimum Order: 1; Mounting Type: Surface Mount; Operating Temperature: -10°C ~ 75°C; Package / Case: 4-SMD, No Lead; Packaging: TapeAndReel; PartId: 596; Part Status: Active; Price: 0.38; Series: NX3225SA; Size / Dimension: 0.126" L x 0.098" W (3.20mm x 2.50mm); Supplier 1: DigiKey; Supplier Part Number 1: 644-1047-1-ND; Type: MHz Crystal; Value: 12MHz
footprint NDK NX3225SA
pins: 1, 2 GND, 3, 4 GND

## NX3225SA-12MHZ-STD-CSR-3
designator Y?, comment 12MHz
CRYSTAL 12.0000MHZ 8PF SMD; Part Number: NX3225SA-12MHZ-STD-CSR-3; Manufacturer: NDK America, Inc.; ESR (Equivalent Series Resistance): 100 Ohms; Frequency Stability: ±15ppm; Operating Mode: Fundamental; ComponentLink1Description: Datasheet; ComponentLink1URL: //media.digikey.com/pdf/Data%20Sheets/NDK%20PDFs/NX3225SA_STD-CSR-3.pdf; ComponentLink2Description: DigiKey Link; ComponentLink2URL: http://digikey.com/product-detail/en/ndk-america-inc/NX3225SA-12MHZ-STD-CSR-3/644-1179-1-ND/3125568; Frequency: 12MHz; Frequency Tolerance: ±15ppm; Height - Seated (Max): 0.024" (0.60mm); LastUpdated: 9/2/2020 1:21:59 AM; Lifecycle Status: Active; Load Capacitance: 8pF; Minimum Order: 1; Mounting Type: Surface Mount; Operating Temperature: -10°C ~ 75°C; Package / Case: 4-SMD, No Lead; Packaging: TapeAndReel; PartId: 578; Part Status: Active; Price: 0.45; Series: NX3225SA; Size / Dimension: 0.126" L x 0.098" W (3.20mm x 2.50mm); Supplier 1: DigiKey; Supplier Part Number 1: 644-1179-1-ND; Type: MHz Crystal; Value: 12MHz
footprint NDK NX3225SA
pins: 1, 2 GND, 3, 4 GND

## NX3225SA-12MHZ-STD-CSR-6
designator Y?, comment 12MHz
CRYSTAL 12.0000MHZ 8PF SMD; Part Number: NX3225SA-12MHZ-STD-CSR-6; Manufacturer: NDK America, Inc.; ESR (Equivalent Series Resistance): 100 Ohms; Frequency Stability: ±25ppm; Frequency Tolerance: ±15ppm; Operating Mode: Fundamental; ComponentLink1Description: Datasheet; ComponentLink1URL: http://www.ndk.com/images/products/catalog/c_NX3225SA_e.pdf; ComponentLink2Description: DigiKey Link; ComponentLink2URL: http://digikey.com/product-detail/en/ndk-america-inc/NX3225SA-12MHZ-STD-CSR-6/644-1180-1-ND/3125569; Frequency: 12MHz; Height - Seated (Max): 0.024" (0.60mm); LastUpdated: 9/2/2020 1:21:59 AM; Lifecycle Status: Active; Load Capacitance: 8pF; Minimum Order: 1; Mounting Type: Surface Mount; Operating Temperature: -40°C ~ 85°C; Package / Case: 4-SMD, No Lead; Packaging: TapeAndReel; PartId: 590; Part Status: Active; Price: 0.45; Series: NX3225SA; Size / Dimension: 0.126" L x 0.098" W (3.20mm x 2.50mm); Supplier 1: DigiKey; Supplier Part Number 1: 644-1180-1-ND; Type: MHz Crystal; Value: 12MHz
footprint NDK NX3225SA
pins: 1, 2 GND, 3, 4 GND

## NX3225SA-13.56M-STD-CSR-3
designator Y?, comment 13.56MHz
CRYSTAL 13.5600MHZ 8PF SMD; Part Number: NX3225SA-13.56M-STD-CSR-3; Manufacturer: NDK America, Inc.; ESR (Equivalent Series Resistance): 80 Ohms; Frequency Stability: ±15ppm; Operating Mode: Fundamental; ComponentLink1Description: Datasheet; ComponentLink1URL: //media.digikey.com/pdf/Data%20Sheets/NDK%20PDFs/NX3225SA_STD-CSR-3.pdf; ComponentLink2Description: DigiKey Link; ComponentLink2URL: http://digikey.com/product-detail/en/ndk-america-inc/NX3225SA-13.56M-STD-CSR-3/644-1235-1-ND/4914478; Frequency: 13.56MHz; Frequency Tolerance: ±15ppm; Height - Seated (Max): 0.024" (0.60mm); LastUpdated: 9/2/2020 1:21:59 AM; Lifecycle Status: Active; Load Capacitance: 8pF; Minimum Order: 1; Mounting Type: Surface Mount; Operating Temperature: -10°C ~ 75°C; Package / Case: 4-SMD, No Lead; Packaging: TapeAndReel; PartId: 579; Part Status: Active; Price: 0.38; Series: NX3225SA; Size / Dimension: 0.126" L x 0.098" W (3.20mm x 2.50mm); Supplier 1: DigiKey; Supplier Part Number 1: 644-1235-1-ND; Type: MHz Crystal; Value: 13.56MHz
footprint NDK NX3225SA
pins: 1, 2 GND, 3, 4 GND

## NX3225SA-14.31818M-STD-CSR-1
designator Y?, comment 14.31818MHz
CRYSTAL 14.31818MHZ 8PF SMD; Part Number: NX3225SA-14.31818M-STD-CSR-1; Manufacturer: NDK America, Inc.; ESR (Equivalent Series Resistance): 80 Ohms; Frequency Stability: ±15ppm; Operating Mode: Fundamental; ComponentLink1Description: Datasheet; ComponentLink1URL: //media.digikey.com/pdf/Data%20Sheets/NDK%20PDFs/NX3225SA.pdf; ComponentLink2Description: DigiKey Link; ComponentLink2URL: http://digikey.com/product-detail/en/ndk-america-inc/NX3225SA-14.31818M-STD-CSR-1/644-1048-1-ND/1128920; Frequency: 14.31818MHz; Frequency Tolerance: ±15ppm; Height - Seated (Max): 0.024" (0.60mm); LastUpdated: 9/2/2020 1:21:59 AM; Lifecycle Status: Active; Load Capacitance: 8pF; Minimum Order: 1; Mounting Type: Surface Mount; Operating Temperature: -10°C ~ 75°C; Package / Case: 4-SMD, No Lead; Packaging: TapeAndReel; PartId: 570; Part Status: Active; Price: 0.38; Series: NX3225SA; Size / Dimension: 0.126" L x 0.098" W (3.20mm x 2.50mm); Supplier 1: DigiKey; Supplier Part Number 1: 644-1048-1-ND; Type: MHz Crystal; Value: 14.31818MHz
footprint NDK NX3225SA
pins: 1, 2 GND, 3, 4 GND

## NX3225SA-16.000M-STD-CRS-2
designator Y?, comment 16MHz
CRYSTAL 16.0000MHZ 8PF SMD; Part Number: NX3225SA-16.000M-STD-CRS-2; Manufacturer: NDK America, Inc.; ESR (Equivalent Series Resistance): 120 Ohms; Frequency Stability: ±50ppm; Frequency Tolerance: ±15ppm; Operating Mode: Fundamental; ComponentLink1Description: Datasheet; ComponentLink1URL: http://www.ndk.com/images/products/catalog/c_NX3225SA-STD-CRS-2_e.pdf; ComponentLink2Description: DigiKey Link; ComponentLink2URL: http://digikey.com/product-detail/en/ndk-america-inc/NX3225SA-16.000M-STD-CRS-2/644-1129-1-ND/1788484; Frequency: 16MHz; Height - Seated (Max): 0.024" (0.60mm); LastUpdated: 9/2/2020 1:21:59 AM; Lifecycle Status: Active; Load Capacitance: 8pF; Minimum Order: 1; Mounting Type: Surface Mount; Operating Temperature: -40°C ~ 125°C; Package / Case: 4-SMD, No Lead; Packaging: TapeAndReel; PartId: 598; Part Status: Active; Price: 0.54; Ratings: AEC-Q200; Series: NX3225SA; Size / Dimension: 0.126" L x 0.098" W (3.20mm x 2.50mm); Supplier 1: DigiKey; Supplier Part Number 1: 644-1129-1-ND; Type: MHz Crystal; Value: 16MHz
footprint NDK NX3225SA
pins: 1, 2 GND, 3, 4 GND

## NX3225SA-16.000M-STD-CSR-1
designator Y?, comment 16MHz
CRYSTAL 16.0000MHZ 8PF SMD; Part Number: NX3225SA-16.000M-STD-CSR-1; Manufacturer: NDK America, Inc.; ESR (Equivalent Series Resistance): 80 Ohms; Frequency Stability: ±15ppm; Operating Mode: Fundamental; ComponentLink1Description: Datasheet; ComponentLink1URL: //media.digikey.com/pdf/Data%20Sheets/NDK%20PDFs/NX3225SA.pdf; ComponentLink2Description: DigiKey Link; ComponentLink2URL: http://digikey.com/product-detail/en/ndk-america-inc/NX3225SA-16.000M-STD-CSR-1/644-1049-1-ND/1128921; Frequency: 16MHz; Frequency Tolerance: ±15ppm; Height - Seated (Max): 0.024" (0.60mm); LastUpdated: 9/2/2020 1:21:59 AM; Lifecycle Status: Active; Load Capacitance: 8pF; Minimum Order: 1; Mounting Type: Surface Mount; Operating Temperature: -10°C ~ 75°C; Package / Case: 4-SMD, No Lead; Packaging: TapeAndReel; PartId: 582; Part Status: Active; Price: 0.38; Series: NX3225SA; Size / Dimension: 0.126" L x 0.098" W (3.20mm x 2.50mm); Supplier 1: DigiKey; Supplier Part Number 1: 644-1049-1-ND; Type: MHz Crystal; Value: 16MHz
footprint NDK NX3225SA
pins: 1, 2 GND, 3, 4 GND

## NX3225SA-16.000000MHZ-B3
designator Y?, comment 16MHz
CRYSTAL 16.0000MHZ 7.2PF SMD; Part Number: NX3225SA-16.000000MHZ-B3; Manufacturer: NDK America, Inc.; ESR (Equivalent Series Resistance): 80 Ohms; Frequency Stability: ±15ppm; Frequency Tolerance: ±10ppm; Operating Mode: Fundamental; ComponentLink1Description: Datasheet; ComponentLink1URL: //media.digikey.com/pdf/Data Sheets/NDK PDFs/NX3225SA-16.000000MHz-B3.pdf; ComponentLink2Description: DigiKey Link; ComponentLink2URL: http://digikey.com/product-detail/en/ndk-america-inc/NX3225SA-16.000000MHZ-B3/644-1099-1-ND/1468360; Frequency: 16MHz; Height - Seated (Max): 0.028" (0.70mm); LastUpdated: 9/2/2020 1:21:59 AM; Lifecycle Status: Active; Load Capacitance: 7.2pF; Minimum Order: 1; Mounting Type: Surface Mount; Operating Temperature: -30°C ~ 85°C; Package / Case: 4-SMD, No Lead; Packaging: TapeAndReel; PartId: 593; Part Status: Active; Price: 0.47; Series: NX3225SA; Size / Dimension: 0.126" L x 0.098" W (3.20mm x 2.50mm); Supplier 1: DigiKey; Supplier Part Number 1: 644-1099-1-ND; Type: MHz Crystal; Value: 16MHz
footprint NDK NX3225SA
pins: 1, 2 GND, 3, 4 GND

## NX3225SA-16.000000MHZ-T1
designator Y?, comment 16MHz
CRYSTAL 16.0000MHZ 10PF SMD; Part Number: NX3225SA-16.000000MHZ-T1; Manufacturer: NDK America, Inc.; ESR (Equivalent Series Resistance): 60 Ohms; Frequency Stability: ±10ppm; Operating Mode: Fundamental; ComponentLink1Description: Datasheet; ComponentLink1URL: //media.digikey.com/pdf/Data Sheets/NDK PDFs/NX3225SA-16.000000MHz-T1.pdf; ComponentLink2Description: DigiKey Link; ComponentLink2URL: http://digikey.com/product-detail/en/ndk-america-inc/NX3225SA-16.000000MHZ-T1/644-1100-1-ND/1468361; Frequency: 16MHz; Frequency Tolerance: ±10ppm; Height - Seated (Max): 0.028" (0.70mm); LastUpdated: 9/2/2020 1:21:59 AM; Lifecycle Status: Active; Load Capacitance: 10pF; Minimum Order: 1; Mounting Type: Surface Mount; Operating Temperature: -20°C ~ 70°C; Package / Case: 4-SMD, No Lead; Packaging: TapeAndReel; PartId: 592; Part Status: Active; Price: 0.47; Series: NX3225SA; Size / Dimension: 0.126" L x 0.098" W (3.20mm x 2.50mm); Supplier 1: DigiKey; Supplier Part Number 1: 644-1100-1-ND; Type: MHz Crystal; Value: 16MHz
footprint NDK NX3225SA
pins: 1, 2 GND, 3, 4 GND

## NX3225SA-16M-EXS00A-CS05997
designator Y?, comment 16MHz
CRYSTAL 16MHZ 8PF SMD; Part Number: NX3225SA-16M-EXS00A-CS05997; Manufacturer: NDK America, Inc.; ESR (Equivalent Series Resistance): 120 Ohms; Operating Mode: Fundamental; ComponentLink2Description: DigiKey Link; ComponentLink2URL: http://digikey.com/product-detail/en/ndk-america-inc/NX3225SA-16M-EXS00A-CS05997/644-1302-1-ND/7645324; Frequency: 16MHz; Height - Seated (Max): 0.024" (0.60mm); LastUpdated: 9/2/2020 1:21:59 AM; Lifecycle Status: Active; Load Capacitance: 8pF; Minimum Order: 1; Mounting Type: Surface Mount; Package / Case: 4-SMD, No Lead; Packaging: TapeAndReel; PartId: 572; Part Status: Active; Price: 0.38; Series: NX3225SA; Size / Dimension: 0.126" L x 0.098" W (3.20mm x 2.50mm); Supplier 1: DigiKey; Supplier Part Number 1: 644-1302-1-ND; Type: MHz Crystal; Value: 16MHz
footprint NDK NX3225SA
pins: 1, 2 GND, 3, 4 GND

## NX3225SA-16MHZ-STD-CSR-6
designator Y?, comment 16MHz
CRYSTAL 16.0000MHZ 8PF SMD; Part Number: NX3225SA-16MHZ-STD-CSR-6; Manufacturer: NDK America, Inc.; ESR (Equivalent Series Resistance): 80 Ohms; Frequency Stability: ±25ppm; Frequency Tolerance: ±15ppm; Operating Mode: Fundamental; ComponentLink1Description: Datasheet; ComponentLink1URL: http://www.ndk.com/images/products/catalog/c_NX3225SA_e.pdf; ComponentLink2Description: DigiKey Link; ComponentLink2URL: http://digikey.com/product-detail/en/ndk-america-inc/NX3225SA-16MHZ-STD-CSR-6/644-1182-1-ND/3125571; Frequency: 16MHz; Height - Seated (Max): 0.024" (0.60mm); LastUpdated: 9/2/2020 1:21:59 AM; Lifecycle Status: Active; Load Capacitance: 8pF; Minimum Order: 1; Mounting Type: Surface Mount; Operating Temperature: -40°C ~ 85°C; Package / Case: 4-SMD, No Lead; Packaging: TapeAndReel; PartId: 577; Part Status: Active; Price: 0.45; Series: NX3225SA; Size / Dimension: 0.126" L x 0.098" W (3.20mm x 2.50mm); Supplier 1: DigiKey; Supplier Part Number 1: 644-1182-1-ND; Type: MHz Crystal; Value: 16MHz
footprint NDK NX3225SA
pins: 1, 2 GND, 3, 4 GND

## NX3225SA-20.000M-STD-CRS-2
designator Y?, comment 20MHz
CRYSTAL 20.0000MHZ 8PF SMD; Part Number: NX3225SA-20.000M-STD-CRS-2; Manufacturer: NDK America, Inc.; ESR (Equivalent Series Resistance): 100 Ohms; Frequency Stability: ±50ppm; Frequency Tolerance: ±15ppm; Operating Mode: Fundamental; ComponentLink1Description: Datasheet; ComponentLink1URL: http://www.ndk.com/images/products/catalog/c_NX3225SA-STD-CRS-2_e.pdf; ComponentLink2Description: DigiKey Link; ComponentLink2URL: http://digikey.com/product-detail/en/ndk-america-inc/NX3225SA-20.000M-STD-CRS-2/644-1130-1-ND/1788485; Frequency: 20MHz; Height - Seated (Max): 0.024" (0.60mm); LastUpdated: 9/2/2020 1:21:59 AM; Lifecycle Status: Active; Load Capacitance: 8pF; Minimum Order: 1; Mounting Type: Surface Mount; Operating Temperature: -40°C ~ 125°C; Package / Case: 4-SMD, No Lead; Packaging: TapeAndReel; PartId: 597; Part Status: Active; Price: 0.54; Ratings: AEC-Q200; Series: NX3225SA; Size / Dimension: 0.126" L x 0.098" W (3.20mm x 2.50mm); Supplier 1: DigiKey; Supplier Part Number 1: 644-1130-1-ND; Type: MHz Crystal; Value: 20MHz
footprint NDK NX3225SA
pins: 1, 2 GND, 3, 4 GND

## NX3225SA-20.000M-STD-CSR-1
designator Y?, comment 20MHz
CRYSTAL 20.0000MHZ 8PF SMD; Part Number: NX3225SA-20.000M-STD-CSR-1; Manufacturer: NDK America, Inc.; ESR (Equivalent Series Resistance): 50 Ohms; Frequency Stability: ±15ppm; Operating Mode: Fundamental; ComponentLink1Description: Datasheet; ComponentLink1URL: //media.digikey.com/pdf/Data%20Sheets/NDK%20PDFs/NX3225SA.pdf; ComponentLink2Description: DigiKey Link; ComponentLink2URL: http://digikey.com/product-detail/en/ndk-america-inc/NX3225SA-20.000M-STD-CSR-1/644-1050-1-ND/1128922; Frequency: 20MHz; Frequency Tolerance: ±15ppm; Height - Seated (Max): 0.024" (0.60mm); LastUpdated: 9/2/2020 1:21:59 AM; Lifecycle Status: Active; Load Capacitance: 8pF; Minimum Order: 1; Mounting Type: Surface Mount; Operating Temperature: -10°C ~ 75°C; Package / Case: 4-SMD, No Lead; Packaging: TapeAndReel; PartId: 604; Part Status: Active; Price: 0.38; Series: NX3225SA; Size / Dimension: 0.126" L x 0.098" W (3.20mm x 2.50mm); Supplier 1: DigiKey; Supplier Part Number 1: 644-1050-1-ND; Type: MHz Crystal; Value: 20MHz
footprint NDK NX3225SA
pins: 1, 2 GND, 3, 4 GND